# EAGLE library part 418117170908 (library Switches_rev16a)
WS-BS 2.54 mm compact THT Dip Switch with flat actuator, 8 Pole
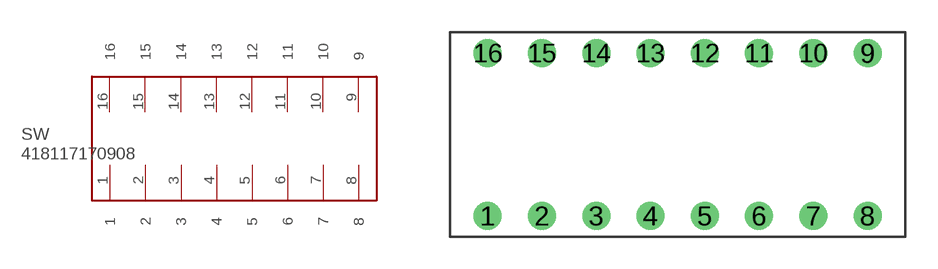
[diagram p53: symbol with the pads of 418117170908; footprint 418117170908]

Designator prefix SW

## 418117170908  [418117170908]
1  1
2  2
3  3
4  4
5  5
6  6
7  7
8  8
9  9
10  10
11  11
12  12
13  13
14  14
15  15
16  16

## Footprint 418117170908 (pad centres in mm)
WS-BS 2.54 mm compact THT Dip Switch with flat actuator, 8 Pole
drill 0.8: 1 -8.89,-3.81; 2 -6.35,-3.81; 3 -3.81,-3.81; 4 -1.27,-3.81; 5 1.27,-3.81; 6 3.81,-3.81; 7 6.35,-3.81; 8 8.89,-3.81; 9 8.89,3.81; 10 6.35,3.81; 11 3.81,3.81; 12 1.27,3.81; 13 -1.27,3.81; 14 -3.81,3.81; 15 -6.35,3.81; 16 -8.89,3.81